# EAGLE library part MAX9714 (library Audio-Power-amlifier V.2.0)
The MAX9714 mono/stereo Class D audio power amplifiers provide Class AB amplifier performance with Class D efficiency, conserving board space and eliminating the need for a bulky heatsink. Using a Class D architecture, these devices deliver up to 6W while offering greater than 85% efficiency. Proprietary and protected modulation and switching schemes render the traditional Class D output filter unnecessary.
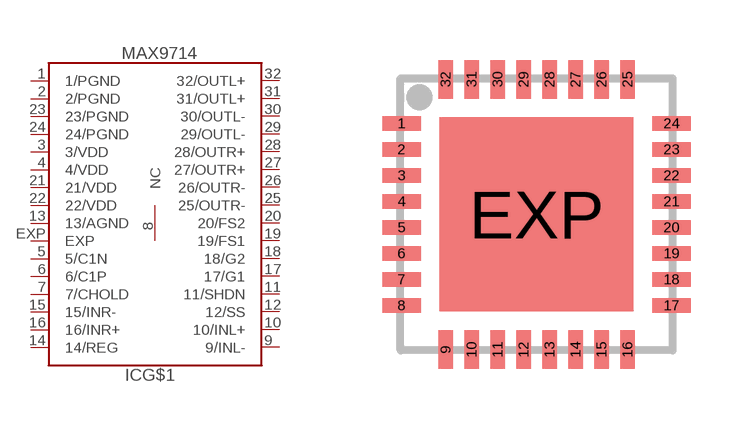
[diagram p239: symbol with the pads of TQFN32_7X7; footprint TQFN32_7X7]

Designator prefix IC; gates G$1=MAX9714 G$2=NC

## MAX9714  [TQFN32_7X7]
1  G$1:1/PGND  pwr
2  G$1:2/PGND  pwr
3  G$1:3/VDD  pwr
4  G$1:4/VDD  pwr
5  G$1:5/C1N
6  G$1:6/C1P
7  G$1:7/CHOLD
8  G$2:NC  nc
9  G$1:9/INL-  in
10  G$1:10/INL+  in
11  G$1:11/SHDN
12  G$1:12/SS
13  G$1:13/AGND  pwr
14  G$1:14/REG  out
15  G$1:15/INR-  in
16  G$1:16/INR+  in
17  G$1:17/G1  in
18  G$1:18/G2  in
19  G$1:19/FS1  in
20  G$1:20/FS2  in
21  G$1:21/VDD  pwr
22  G$1:22/VDD  pwr
23  G$1:23/PGND  pwr
24  G$1:24/PGND  pwr
25  G$1:25/OUTR-  out
26  G$1:26/OUTR-  out
27  G$1:27/OUTR+  out
28  G$1:28/OUTR+  out
29  G$1:29/OUTL-  out
30  G$1:30/OUTL-  out
31  G$1:31/OUTL+  out
32  G$1:32/OUTL+  out
EXP  G$1:EXP  pwr

## Footprint TQFN32_7X7 (pad centres in mm)
TQFN 7x7 mm Source: www.maxim-ic.com/packages .. 90-0125.pdf
smd 0.965 x 0.366: 1 -3.378,2.275; 2 -3.378,1.625; 3 -3.378,0.975; 4 -3.378,0.325; 5 -3.378,-0.325; 6 -3.378,-0.975; 7 -3.378,-1.625; 8 -3.378,-2.275; 17 3.378,-2.275; 18 3.378,-1.625; 19 3.378,-0.975; 20 3.378,-0.325; 21 3.378,0.325; 22 3.378,0.975; 23 3.378,1.625; 24 3.378,2.275
smd 0.366 x 0.965: 9 -2.275,-3.378; 10 -1.625,-3.378; 11 -0.975,-3.378; 12 -0.325,-3.378; 13 0.325,-3.378; 14 0.975,-3.378; 15 1.625,-3.378; 16 2.275,-3.378; 25 2.275,3.378; 26 1.625,3.378; 27 0.975,3.378; 28 0.325,3.378; 29 -0.325,3.378; 30 -0.975,3.378; 31 -1.625,3.378; 32 -2.275,3.378
smd 4.851 x 4.851: EXP 0,0